# Altium schematic symbol library RTK20.SchLib: 2 symbols
Pins are listed as number, name and electrical type; pins without a type are passive.

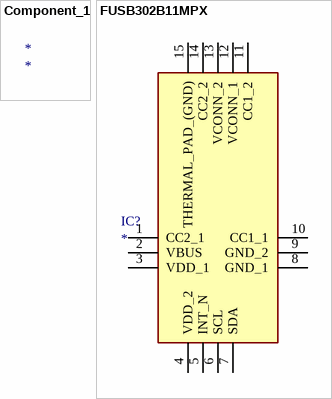
[diagram p0: symbols Component_1 to FUSB302B11MPX]

## Component_1
designator *

## FUSB302B11MPX
designator IC?
Integrated Circuit; Manufacturer_Name: ON Semiconductor; Manufacturer_Part_Number: FUSB302B11MPX; Description: ON SEMICONDUCTOR - FUSB302B11MPX - USB TYPE-C CONTROLLER W/PD; Datasheet Link: http://www.farnell.com/datasheets/2313408.pdf; Height: 0.8mm; Mouser Part Number: 512-FUSB302B11MPX; Mouser Price/Stock: https://www.mouser.co.uk/ProductDetail/ON-Semiconductor-Fairchild/FUSB302B11MPX?qs=jFK2DQXLaBwFFZq6iARIyw%3D%3D; Arrow Part Number: FUSB302B11MPX; Arrow Price/Stock: https://www.arrow.com/en/products/fusb302b11mpx/on-semiconductor?region=nac
footprint QFN50P250X250X80-15N
pins: 1 CC2_1, 2 VBUS, 3 VDD_1, 4 VDD_2, 5 INT_N, 6 SCL, 7 SDA, 8 GND_1, 9 GND_2, 10 CC1_1, 11 CC1_2, 12 VCONN_1, 13 VCONN_2, 14 CC2_2, 15 THERMAL_PAD_(GND)